# EAGLE library part MOLEX_5050700622 (library Molex 5050700622)
Molex 5050700622
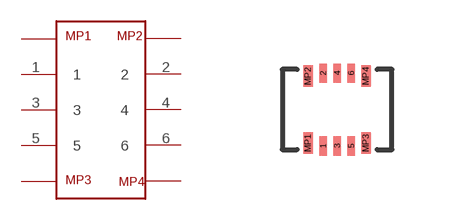
[diagram p0: symbol with the pads of MOLEX_5050700622; footprint MOLEX_5050700622]

Designator prefix -

## MOLEX_5050700622  [MOLEX_5050700622]
1  1
2  2
3  3
4  4
5  5
6  6
MP1  MP1
MP2  MP2
MP3  MP3
MP4  MP4

## Footprint MOLEX_5050700622 (pad centres in mm)
Molex 5050700622
smd 0.18 x 0.485: 1 -0.35,-0.907; 2 -0.35,0.907; 3 0,-0.907; 4 0,0.907; 5 0.35,-0.907; 6 0.35,0.907
smd 0.23 x 0.535: MP1 -0.725,-0.835; MP2 -0.725,0.835; MP3 0.725,-0.835; MP4 0.725,0.835